# EAGLE library part FDY1002PZ (library common)
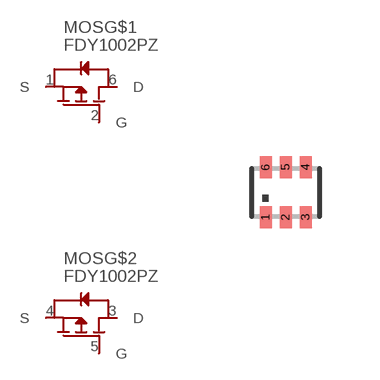
[diagram p13: symbol with the pads of SC89-6; footprint SC89-6]

Designator prefix MOS; gates G$1=MOSFET_P G$2=MOSFET_P

## FDY1002PZ  [SC89-6]
1  G$1:S
2  G$1:G
3  G$2:D
4  G$2:S
5  G$2:G
6  G$1:D

## Footprint SC89-6 (pad centres in mm)
smd 0.3 x 0.55: 1 -0.5,-0.625; 2 0,-0.625; 3 0.5,-0.625; 4 0.5,0.625; 5 0,0.625; 6 -0.5,0.625